# Altium schematic symbol library Schlib_Bel_Magnetic_Solutions.SchLib: 1 symbol
Pins are listed as number, name and electrical type; pins without a type are passive.

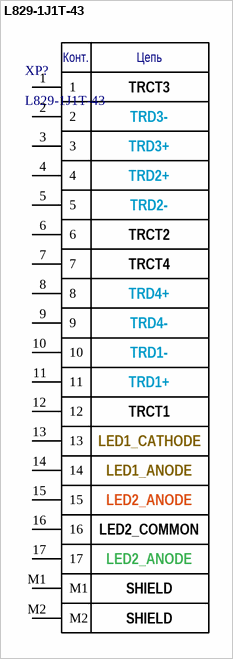
[diagram p0: symbol L829-1J1T-43]

## L829-1J1T-43
designator XP?
1 Port Ethernet RJ45 Connector; Part Number: L829-1J1T-43
footprint L829-1J1T-43
pins: 1, 2, 3, 4, 5, 6, 7, 8, 9, 10, 11, 12, 13, 14, 15, 16, 17, M1, M2
text: Конт.; Цепь; TRCT3; TRD3-; TRD3+; TRD2+; TRD2-; TRCT2; TRCT4; TRD4+; TRD4-; TRD1-; TRD1+; TRCT1; LED1_CATHODE; LED1_ANODE; LED2_ANODE; LED2_COMMON; SHIELD